# EAGLE library part 100DP1T1B1M2QEH (library Tubescreamer)
DPDT Switch Datasheet <https://sten-eswitch-13110800-production.s3.amazonaws.com/system/asset/product_line/data_sheet/129/100.pdf>
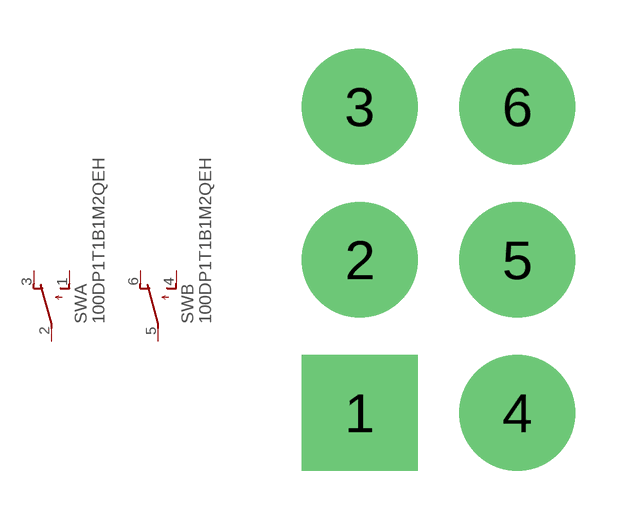
[diagram p1: symbol with the pads of 100DP6T1B1M2QE; footprint 100DP6T1B1M2QE]

Designator prefix SW; gates A=ON-MOM B=ON-MOM

## 100DP1T1B1M2QEH  [100DP6T1B1M2QE]
1  A:NO  pas
2  A:P  pas
3  A:NC  pas
4  B:NO  pas
5  B:P  pas
6  B:NC  pas

## Footprint 100DP6T1B1M2QE (pad centres in mm)
drill 2.54 square: 1 -2.413,-4.699
drill 2.54: 2 -2.413,0; 3 -2.413,4.699; 4 2.413,-4.699; 5 2.413,0; 6 2.413,4.699